# EAGLE library part FDMC8010 (library FDMC8010)
Max RDS(on) = 1.3 m at VGS = 10 V, ID = 30 A; Max RDS(on) = 1.8 m at VGS = 4.5 V, ID = 25 A; High performance technology for extremely low RDS(on); Termination is Lead-free and RoHS Compliant Source: Datasheet <https://www.onsemi.com/pub/Collateral/FDMC8010-D.PDF>
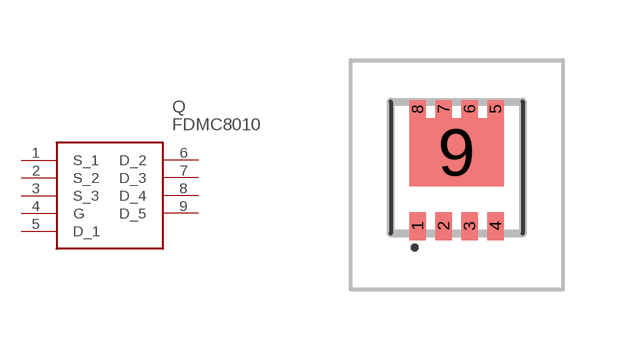
[diagram p0: symbol with the pads of FDMC8010; footprint FDMC8010]

Designator prefix Q

## FDMC8010 (Arrow_Part_Number: FDMC8010; Arrow_Price-Stock: https://www.arrow.com/en/products/fdmc8010/on-semiconductor?region=nac; Description: Max RDS(on) = 1.3 m at VGS = 10 V, ID = 30 A; Max RDS(on) = 1.8 m at VGS = 4.5 V, ID = 25 A; High performance technology for extremely low RDS(on); Termination is Lead-free and RoHS Compliant; Height: 0.8mm; Manufacturer_Name: onsemi; Manufacturer_Part_Number: FDMC8010; Mouser_Part_Number: 512-FDMC8010; Mouser_Price-Stock: https://www.mouser.co.uk/ProductDetail/onsemi-Fairchild/FDMC8010?qs=BiJXFBt7cx1GJPIblT9OBw%3D%3D)  [FDMC8010]
1  S_1
2  S_2
3  S_3
4  G
5  D_1
6  D_2
7  D_3
8  D_4
9  D_5

## Footprint FDMC8010 (pad centres in mm)
FDMC8010-2
smd 0.42 x 0.7: 1 -0.975,-1.462; 2 -0.325,-1.462; 3 0.325,-1.462; 4 0.975,-1.462
smd 0.42 x 0.45: 5 0.975,1.463; 6 0.325,1.463; 7 -0.325,1.463; 8 -0.975,1.463
smd 2.37 x 1.7: 9 0,0.388